# Altium footprint library TO254P482X1016X2221-3P.PcbLib: 1 footprints
Each footprint in its own frame and in the unit in brackets; x right, y up, seen from the top. Pads: shape width x height; smd on the part's side, far side on the other; paste and mask are expansions set on the pad; w line width, h text height; cw(c..) or ccw(c..) is an arc to the next point about the centre after c.
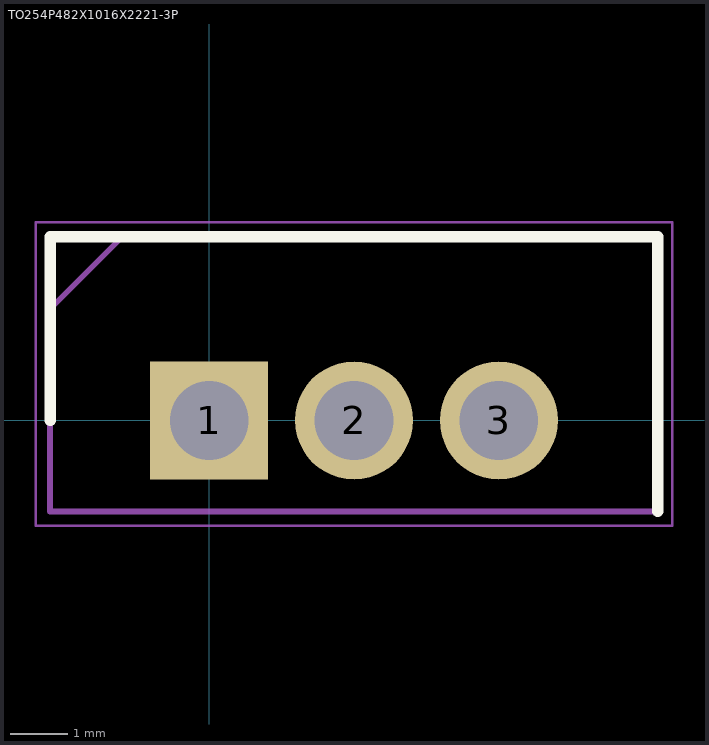
[diagram p0: the footprint, top view; thin cyan lines are the x and y axes]

## TO254P482X1016X2221-3P [mm]
pads (3):
  rect 2.07x2.07 / inner round 2.07 / far side rect 2.07x2.07 hole 1.38: 1(0,0)
  round 2.07 hole 1.38: 2(2.54,0) 3(5.08,0)
Top Overlay:
  lines w0.2: -2.79,0 -2.79,3.225 7.87,3.225 7.87,-1.595
Mechanical 15:
  lines w0.1: -2.79,1.955 -1.52,3.225 ; -2.79,-1.595 7.87,-1.595 7.87,3.225 -2.79,3.225 -2.79,-1.595
Mechanical 20:
  lines w0.05: -3.04,-1.845 8.12,-1.845 8.12,3.475 -3.04,3.475 -3.04,-1.845